# Altium schematic symbol library CD4081BE.SchLib: 1 symbol
Pins are listed as number, name and electrical type; pins without a type are passive.

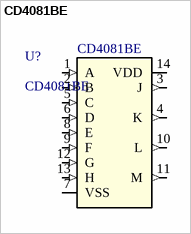
[diagram p0: symbol CD4081BE]

## CD4081BE
designator U?
No Description Available; Mfr_Name: Texas Instruments; Copyright: Copyright (C) 2023 Ultra Librarian. All rights reserved.; Manufacturer_Part_Number: CD4081BE; RefDes: RefDes; Type: DEV
footprint N14
pins: 1 A (in), 2 B (in), 3 J (out), 4 K (out), 5 C (in), 6 D (in), 7 VSS (power), 8 E (in), 9 F (in), 10 L (out), 11 M (out), 12 G (in), 13 H (in), 14 VDD (power)